# EAGLE library part STM32H745ZIT6 (library STM32H745ZIT6)
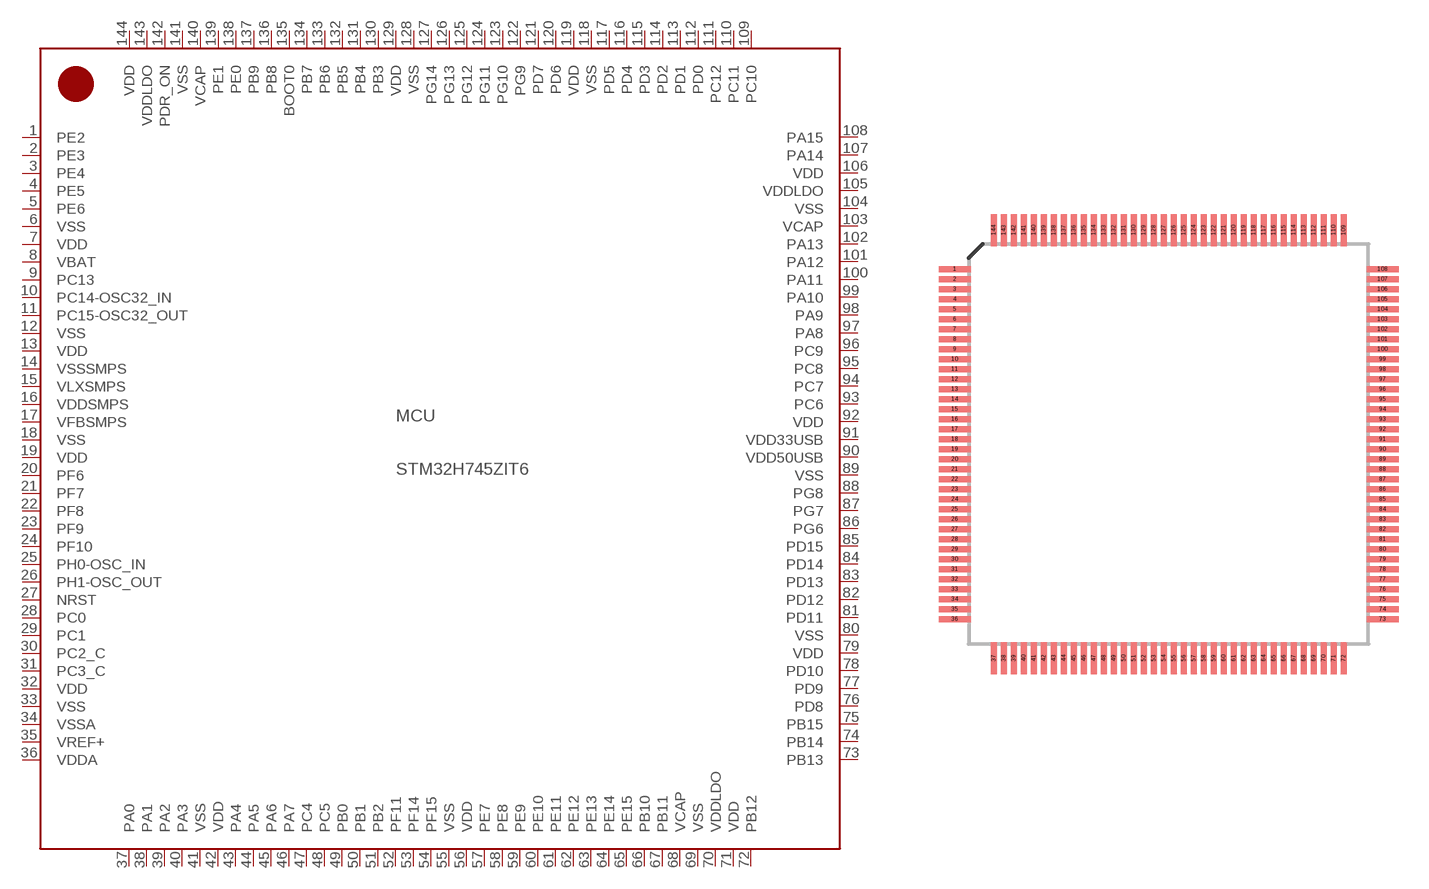
[diagram p0: symbol with the pads of LQFP144; footprint LQFP144]

Designator prefix MCU

## STM32H745ZIT6144  [LQFP144]
1  PE2
2  PE3
3  PE4
4  PE5
5  PE6
6  VSS
7  VDD
8  VBAT
9  PC13
10  PC14-OSC32_IN
11  PC15-OSC32_OUT
12  VSS
13  VDD
14  VSSSMPS
15  VLXSMPS
16  VDDSMPS
17  VFBSMPS
18  VSS
19  VDD
20  PF6
21  PF7
22  PF8
23  PF9
24  PF10
25  PH0-OSC_IN
26  PH1-OSC_OUT
27  NRST
28  PC0
29  PC1
30  PC2_C
31  PC3_C
32  VDD
33  VSS
34  VSSA
35  VREF+
36  VDDA
37  PA0
38  PA1
39  PA2
40  PA3
41  VSS
42  VDD
43  PA4
44  PA5
45  PA6
46  PA7
47  PC4
48  PC5
49  PB0
50  PB1
51  PB2
52  PF11
53  PF14
54  PF15
55  VSS
56  VDD
57  PE7
58  PE8
59  PE9
60  PE10
61  PE11
62  PE12
63  PE13
64  PE14
65  PE15
66  PB10
67  PB11
68  VCAP
69  VSS
70  VDDLDO
71  VDD
72  PB12
73  PB13
74  PB14
75  PB15
76  PD8
77  PD9
78  PD10
79  VDD
80  VSS
81  PD11
82  PD12
83  PD13
84  PD14
85  PD15
86  PG6
87  PG7
88  PG8
89  VSS
90  VDD50USB
91  VDD33USB
92  VDD
93  PC6
94  PC7
95  PC8
96  PC9
97  PA8
98  PA9
99  PA10
100  PA11
101  PA12
102  PA13
103  VCAP
104  VSS
105  VDDLDO
106  VDD
107  PA14
108  PA15
109  PC10
110  PC11
111  PC12
112  PD0
113  PD1
114  PD2
115  PD3
116  PD4
117  PD5
118  VSS
119  VDD
120  PD6
121  PD7
122  PG9
123  PG10
124  PG11
125  PG12
126  PG13
127  PG14
128  VSS
129  VDD
130  PB3
131  PB4
132  PB5
133  PB6
134  PB7
135  BOOT0
136  PB8
137  PB9
138  PE0
139  PE1
140  VCAP
141  VSS
142  PDR_ON
143  VDDLDO
144  VDD

## Footprint LQFP144 (pad centres in mm)
smd 1.6 x 0.3: 1 -10.7,8.75; 2 -10.7,8.25; 3 -10.7,7.75; 4 -10.7,7.25; 5 -10.7,6.75; 6 -10.7,6.25; 7 -10.7,5.75; 8 -10.7,5.25; 9 -10.7,4.75; 10 -10.7,4.25; 11 -10.7,3.75; 12 -10.7,3.25; 13 -10.7,2.75; 14 -10.7,2.25; 15 -10.7,1.75; 16 -10.7,1.25; 17 -10.7,0.75; 18 -10.7,0.25; 19 -10.7,-0.25; 20 -10.7,-0.75; 21 -10.7,-1.25; 22 -10.7,-1.75; 23 -10.7,-2.25; 24 -10.7,-2.75; 25 -10.7,-3.25; 26 -10.7,-3.75; 27 -10.7,-4.25; 28 -10.7,-4.75; 29 -10.7,-5.25; 30 -10.7,-5.75; 31 -10.7,-6.25; 32 -10.7,-6.75; 33 -10.7,-7.25; 34 -10.7,-7.75; 35 -10.7,-8.25; 36 -10.7,-8.75; 73 10.7,-8.75; 74 10.7,-8.25; 75 10.7,-7.75; 76 10.7,-7.25; 77 10.7,-6.75; 78 10.7,-6.25; 79 10.7,-5.75; 80 10.7,-5.25; 81 10.7,-4.75; 82 10.7,-4.25; 83 10.7,-3.75; 84 10.7,-3.25; 85 10.7,-2.75; 86 10.7,-2.25; 87 10.7,-1.75; 88 10.7,-1.25; 89 10.7,-0.75; 90 10.7,-0.25; 91 10.7,0.25; 92 10.7,0.75; 93 10.7,1.25; 94 10.7,1.75; 95 10.7,2.25; 96 10.7,2.75; 97 10.7,3.25; 98 10.7,3.75; 99 10.7,4.25; 100 10.7,4.75; 101 10.7,5.25; 102 10.7,5.75; 103 10.7,6.25; 104 10.7,6.75; 105 10.7,7.25; 106 10.7,7.75; 107 10.7,8.25; 108 10.7,8.75
smd 0.3 x 1.6: 37 -8.75,-10.7; 38 -8.25,-10.7; 39 -7.75,-10.7; 40 -7.25,-10.7; 41 -6.75,-10.7; 42 -6.25,-10.7; 43 -5.75,-10.7; 44 -5.25,-10.7; 45 -4.75,-10.7; 46 -4.25,-10.7; 47 -3.75,-10.7; 48 -3.25,-10.7; 49 -2.75,-10.7; 50 -2.25,-10.7; 51 -1.75,-10.7; 52 -1.25,-10.7; 53 -0.75,-10.7; 54 -0.25,-10.7; 55 0.25,-10.7; 56 0.75,-10.7; 57 1.25,-10.7; 58 1.75,-10.7; 59 2.25,-10.7; 60 2.75,-10.7; 61 3.25,-10.7; 62 3.75,-10.7; 63 4.25,-10.7; 64 4.75,-10.7; 65 5.25,-10.7; 66 5.75,-10.7; 67 6.25,-10.7; 68 6.75,-10.7; 69 7.25,-10.7; 70 7.75,-10.7; 71 8.25,-10.7; 72 8.75,-10.7; 109 8.75,10.7; 110 8.25,10.7; 111 7.75,10.7; 112 7.25,10.7; 113 6.75,10.7; 114 6.25,10.7; 115 5.75,10.7; 116 5.25,10.7; 117 4.75,10.7; 118 4.25,10.7; 119 3.75,10.7; 120 3.25,10.7; 121 2.75,10.7; 122 2.25,10.7; 123 1.75,10.7; 124 1.25,10.7; 125 0.75,10.7; 126 0.25,10.7; 127 -0.25,10.7; 128 -0.75,10.7; 129 -1.25,10.7; 130 -1.75,10.7; 131 -2.25,10.7; 132 -2.75,10.7; 133 -3.25,10.7; 134 -3.75,10.7; 135 -4.25,10.7; 136 -4.75,10.7; 137 -5.25,10.7; 138 -5.75,10.7; 139 -6.25,10.7; 140 -6.75,10.7; 141 -7.25,10.7; 142 -7.75,10.7; 143 -8.25,10.7; 144 -8.75,10.7